# Altium footprint library BAT_HoldersClipsContacts.PcbLib: 3 footprints
Each footprint in its own frame and in the unit in brackets; x right, y up, seen from the top. Pads: shape width x height; smd on the part's side, far side on the other; paste and mask are expansions set on the pad; w line width, h text height; cw(c..) or ccw(c..) is an arc to the next point about the centre after c.
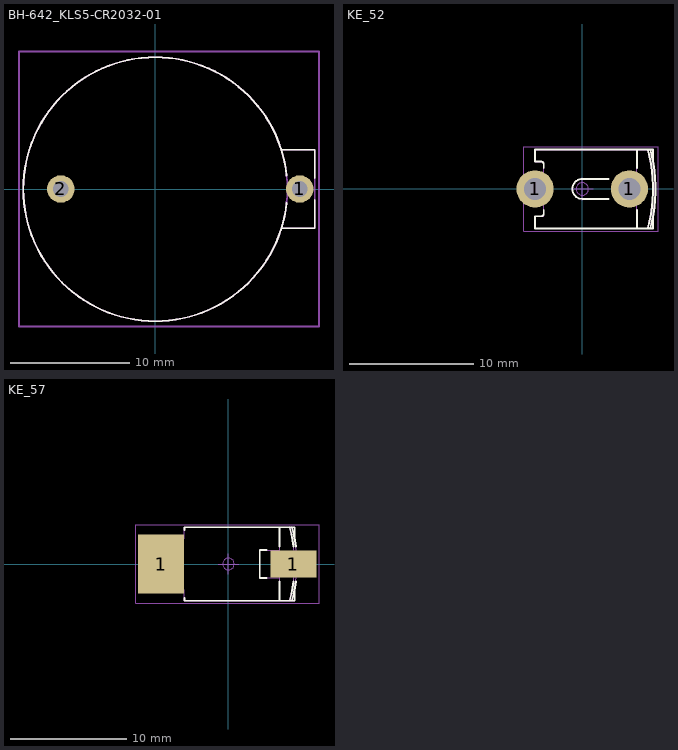
[diagram p0: the footprints below, top view; thin cyan lines are the x and y axes]

## BH-642_KLS5-CR2032-01 [mm] "KLS5-CR2032 01 Coin Cell Holder"
pads (2):
  round 2.3 hole 1.3: 1(12.087,0.016) 2(-7.913,0.016)
Top Overlay:
  lines w0.15: 10.551,-3.275 13.336,-3.275 13.336,-0.9 ; 10.6,3.296 13.339,3.296 13.339,0.921 ; 10.99,-1.155 cw(c0,0) 10.99,1.155
Mechanical 14:
  circle w0.15: c0,0 r11.05
  lines w0.15: 10.551,-3.275 13.336,-3.275 ; 10.6,3.296 13.339,3.296 13.339,-3.275
  text ".Designator" at -1.6,-1 h2
Mechanical 15:
  lines w0.15: -11.413,-11.484 13.7,-11.484 13.7,11.516 -11.413,11.516 -11.413,-11.484
3D body "BH-642.STEP": height 8.5, standoff -4.3, extent -10.974,-11.165 13.326,11.135

## KE_52 [mm] "Keystone Electronics 52"
pads (2):
  round 3 hole 1.8: 1(-3.8,0) 1(3.8,0)
Top Overlay:
  lines w0.15: -3.1,-1.7 -3.1,-2 cw(c-3.3,-2) -3.3,-2.2 -3.8,-2.2 -3.8,-3.175 5.7,-3.175 ; -3.1,1.7 -3.1,2 ccw(c-3.3,2) -3.3,2.2 -3.8,2.2 -3.8,3.175 5.7,3.175 5.7,2.2 ; 2.1,-0.8 0,-0.8 cw(c0,0) -0.8,0 cw(c0,0) 0,0.8 2.1,0.8 ; 4.4,-3.1 4.4,-1.7 ; 4.4,1.7 4.4,3.1 ; 5.269,3.167 cw(c-6.177,-0.004) 5.272,-3.165 ; 5.469,3.167 cw(c-5.977,-0.004) 5.472,-3.165 ; 5.7,-2.2 5.7,-3.175 ; 5.7,-3.175 5.7,-3.175
Mechanical 13:
  lines w0.1: 4.4,-3.1 4.4,-0.7 4.4,0.7 4.4,3.1 ; 5.262,3.192 cw(c-6.177,-0.004) 5.272,-3.165 ; 5.462,3.192 cw(c-5.977,-0.004) 5.472,-3.165 ; 5.7,-2.2 5.7,-3.175 ; 5.7,2.2 5.7,3.175 -3.8,3.175 -3.8,2.2 -3.1,2.2 -3.1,0.7 -3.8,0.7 -3.8,-0.7 -3.1,-0.7 -3.1,-2.2 -3.8,-2.2 -3.8,-3.175 5.7,-3.175 ; 5.7,-3.175 5.7,-3.175
Mechanical 14:
  lines w0.1: 4.4,-3.1 4.4,-0.7 4.4,0.7 4.4,3.1 ; 5.262,3.192 cw(c-6.177,-0.004) 5.272,-3.165 ; 5.462,3.192 cw(c-5.977,-0.004) 5.472,-3.165 ; 5.7,-2.2 5.7,-3.175 ; 5.7,2.2 5.7,3.175 -3.8,3.175 -3.8,2.2 -3.1,2.2 -3.1,0.7 -3.8,0.7 -3.8,-0.7 -3.1,-0.7 -3.1,-2.2 -3.8,-2.2 -3.8,-3.175 5.7,-3.175 ; 5.7,-3.175 5.7,-3.175
  text ".Designator" at -1.9,-0.8 h1.5
Mechanical 15:
  circle w0.05: c0,0 r0.5
  lines w0.05: -0.9,0 0.9,0 ; 0,-0.9 0,0.9 ; -4.7,-3.4 -4.7,3.4 6.1,3.4 6.1,-3.4 -4.7,-3.4

## KE_57 [mm] "Keystone Electronics 57"
pads (2):
  rect 3.96x5.08 smd: 1(-5.8,0)
  rect 3.96x2.34 smd: 1(5.6,0)
Top Overlay:
  lines w0.15: -3.8,-2.9 -3.8,-3.175 5.7,-3.175 ; -3.8,2.9 -3.8,3.175 5.7,3.175 5.7,2.2 ; 3.3,-1.2 2.7,-1.2 2.7,1.2 3.3,1.2 ; 4.4,-3.1 4.4,-1.5 ; 4.4,1.5 4.4,3.1 ; 5.272,-3.165 ccw(c-6.177,-0.004) 5.604,-1.511 ; 5.272,3.165 cw(c-6.177,0.004) 5.604,1.511 ; 5.472,-3.165 ccw(c-5.977,-0.004) 5.809,-1.476 ; 5.472,3.165 cw(c-5.977,0.004) 5.809,1.476 ; 5.7,-2.2 5.7,-3.175 ; 5.7,-3.175 5.7,-3.175
Mechanical 14:
  lines w0.1: 4.4,-3.1 4.4,-1.2 ; 4.4,3.1 4.4,1.2 ; 5.262,3.192 cw(c-6.177,-0.004) 5.272,-3.165 ; 5.462,3.192 cw(c-5.977,-0.004) 5.472,-3.165 ; 5.7,-2.2 5.7,-3.175 ; 5.7,2.2 5.7,3.175 -3.8,3.175 -3.8,2.2 -7.3,2.2 -7.3,-2.2 -3.8,-2.2 -3.8,-3.175 5.7,-3.175 ; 5.9,-1 7.3,-1 7.3,1 5.9,1 ; 4.4,-1.2 4.4,1.2 ; 4.4,-1.2 2.7,-1.2 2.7,1.2 4.4,1.2 ; 5.7,-3.175 5.7,-3.175
  text ".Designator" at -2.1,-0.7 h1.5
Mechanical 15:
  circle w0.05: c0,0 r0.5
  lines w0.05: -0.9,0 0.9,0 ; 0,-0.9 0,0.9 ; -8,-3.4 -8,3.4 7.8,3.4 7.8,-3.4 -8,-3.4